# EAGLE library part VS1053B (library SynkinoLC)
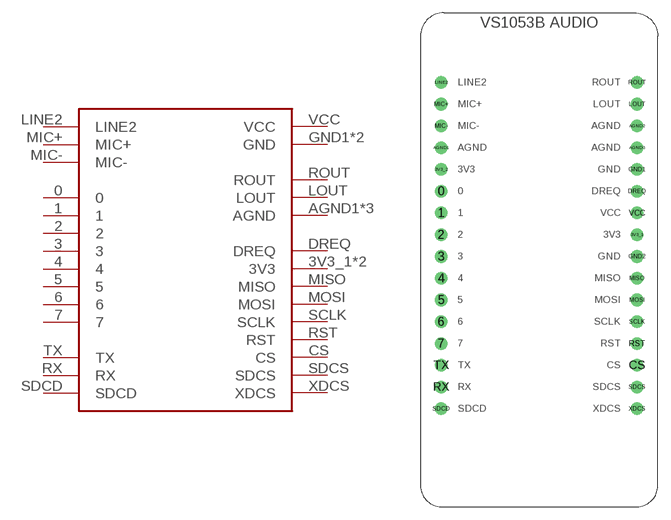
[diagram p3: symbol with the pads of VS1053B; footprint VS1053B]

Designator prefix -

## VS1053B  [VS1053B]
0  0
1  1
2  2
3  3
3V3_1  3V3
3V3_2  3V3
4  4
5  5
6  6
7  7
AGND1  AGND
AGND2  AGND
AGND3  AGND
CS  CS
DREQ  DREQ
GND1  GND
GND2  GND
LINE2  LINE2
LOUT  LOUT
MIC+  MIC+
MIC-  MIC-
MISO  MISO
MOSI  MOSI
ROUT  ROUT
RST  RST
RX  RX
SCLK  SCLK
SDCD  SDCD
SDCS  SDCS
TX  TX
VCC  VCC
XDCS  XDCS

## Footprint VS1053B (pad centres in mm)
drill 0.965: 0 -11.43,7.62; 1 -11.43,5.08; 2 -11.43,2.54; 3 -11.43,0; 3V3_1 11.43,2.54; 3V3_2 -11.43,10.16; 4 -11.43,-2.54; 5 -11.43,-5.08; 6 -11.43,-7.62; 7 -11.43,-10.16; AGND1 -11.43,12.7; AGND2 11.43,15.24; AGND3 11.43,12.7; CS 11.43,-12.7; DREQ 11.43,7.62; GND1 11.43,10.16; GND2 11.43,0; LINE2 -11.43,20.32; LOUT 11.43,17.78; MIC+ -11.43,17.78; MIC- -11.43,15.24; MISO 11.43,-2.54; MOSI 11.43,-5.08; ROUT 11.43,20.32; RST 11.43,-10.16; RX -11.43,-15.24; SCLK 11.43,-7.62; SDCD -11.43,-17.78; SDCS 11.43,-15.24; TX -11.43,-12.7; VCC 11.43,5.08; XDCS 11.43,-17.78